# Altium footprint library MasterLib.PcbLib: 80 footprints (part 5 of 5)
Each footprint in its own frame and in the unit in brackets; x right, y up, seen from the top. Pads: shape width x height; smd on the part's side, far side on the other; paste and mask are expansions set on the pad; w line width, h text height; cw(c..) or ccw(c..) is an arc to the next point about the centre after c.
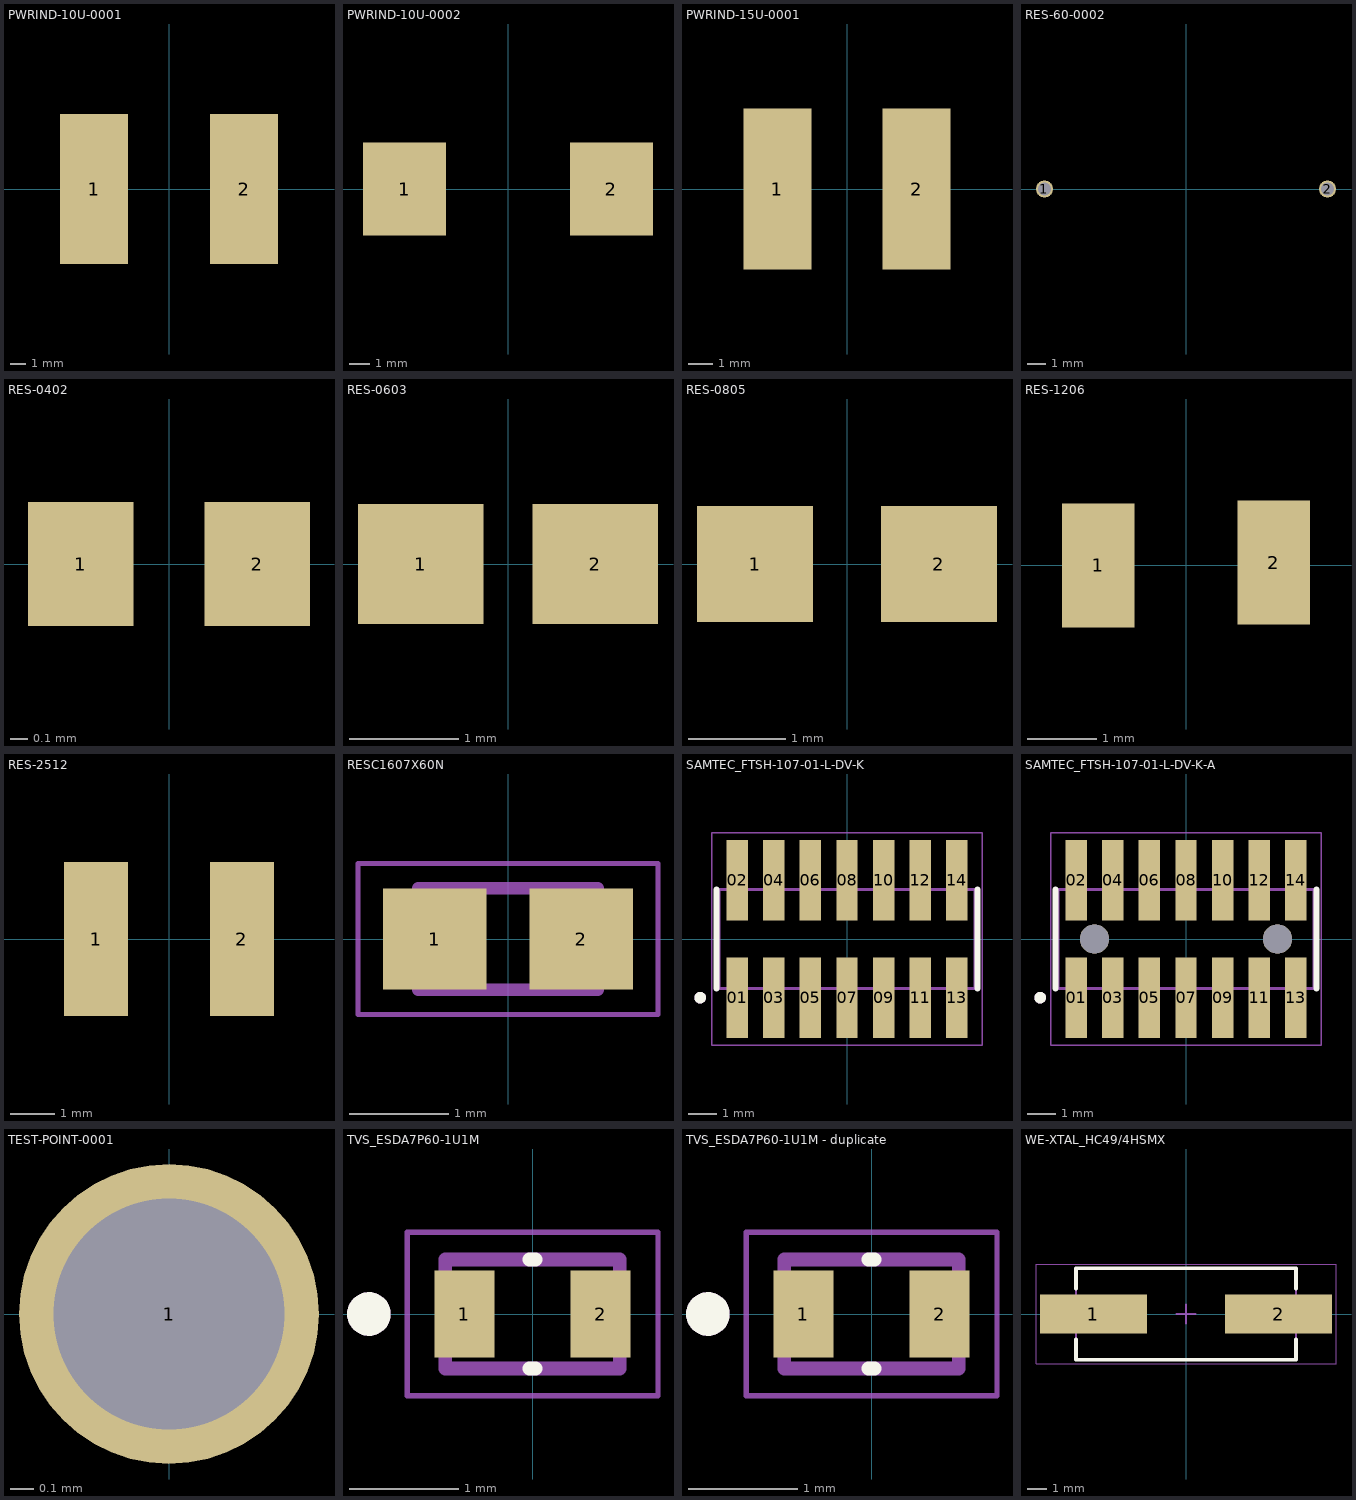
[diagram p4: the footprints below, top view; thin cyan lines are the x and y axes]

## PWRIND-10U-0001 [mm]
pads (2):
  rect 4.5x10 smd: 1(-5,0) 2(5,0)
3D body "HC1.step": height 0, standoff -10.01, extent -6.502,-6.502 6.502,6.502

## PWRIND-10U-0002 [mm]
pads (2):
  rect 4x4.5 smd: 1(-5,0) 2(5,0)
3D body "IND_BOURNS_SRP1270.step": height 7.06, standoff 0, extent -6.845,-6.452 6.845,6.452

## PWRIND-15U-0001 [mm]
pads (2):
  rect 2.8x6.6 smd: 1(-2.85,0) 2(2.85,0)
3D body "User Library-Bourns_SRN8040TA_series_H3_7mm.STEP": height 3.7, standoff 0.01, extent -4,-4 4,4

## RES-60-0002 [mm]
pads (2):
  round 0.9 hole 0.7: 1(-7.5,0) 2(7.5,0)

## RES-0402 [mm]
pads (2):
  rect 0.6x0.7 smd: 1(-0.5,0) 2(0.5,0)
3D body "1879131-6.stp": height 0.3, standoff 0, extent -0.5,-0.25 0.5,0.25

## RES-0603 [mm]
pads (2):
  rect 1.15x1.1 smd: 1(-0.8,0) 2(0.8,0)
3D body "2176051-4.STEP": height 0.43, standoff -0.03, extent -0.8,-0.4 0.8,0.4

## RES-0805 [mm]
pads (2):
  rect 1.2x1.2 smd: 1(-0.95,0) 2(0.95,0)
3D body "RC0805N_PAN.step": height 0.71, standoff 0, extent -1,-0.6 1,0.6

## RES-1206 [mm]
pads (2):
  rect 1.05x1.8 smd: 1(-1.275,0) 2(1.275,0.043)
3D body "D25-CRCW1206-IF e3.stp": height 0.55, standoff 0, extent -1.6,-0.775 1.6,0.825

## RES-2512 [mm]
pads (2):
  rect 1.45x3.5 smd: 1(-1.65,0) 2(1.65,0)

## RESC1607X60N [mm]
pads (2):
  rect 1.04x1.02 smd: 1(-0.735,0) 2(0.735,0)
Mechanical 13:
  lines w0.127: -0.9,-0.51 -0.9,0.51 0.9,0.51 0.9,-0.51 -0.9,-0.51
Mechanical 15:
  lines w0.05: -1.508,-0.761 -1.508,0.761 1.508,0.761 1.508,-0.761 -1.508,-0.761
3D body "step_temp.STEP": height 0.55, standoff 0, extent -0.8,-0.4 0.8,0.4

## SAMTEC_FTSH-107-01-L-DV-K [mm]
pads (14):
  rect 0.74x2.79 smd: 01(-3.81,-2.035) 02(-3.81,2.035) 03(-2.54,-2.035) 04(-2.54,2.035) 05(-1.27,-2.035) 06(-1.27,2.035) 07(0,-2.035) 08(0,2.035) 09(1.27,-2.035) 10(1.27,2.035) 11(2.54,-2.035) 12(2.54,2.035) 13(3.81,-2.035) 14(3.81,2.035)
Top Overlay:
  circle w0.2: c-5.095,-2.035 r0.1
  lines w0.2: -4.53,-1.715 -4.53,1.715 ; 4.53,-1.715 4.53,1.715
Mechanical 13:
  circle w0.2: c-5.095,-2.035 r0.1
  lines w0.1: -4.445,-1.715 -4.445,1.715 ; -4.445,-1.715 4.445,-1.715 ; -4.445,-1.715 -4.445,1.715 ; -4.445,1.715 4.445,1.715 ; -4.445,1.715 4.445,1.715 ; 4.445,-1.715 4.445,1.715 ; 4.445,-1.715 4.445,1.715
Mechanical 15:
  lines w0.05: -4.695,-3.68 4.695,-3.68 4.695,3.68 -4.695,3.68 -4.695,-3.68
3D body "FTSH-107-01-L-DV-K.stp": height 5.96, standoff -0.16, extent -4.445,-2.821 4.445,3.021

## SAMTEC_FTSH-107-01-L-DV-K-A [mm]
height 6.23
pads (16):
  rect 0.74x2.79 smd: 01(-3.81,-2.035) 02(-3.81,2.035) 03(-2.54,-2.035) 04(-2.54,2.035) 05(-1.27,-2.035) 06(-1.27,2.035) 07(0,-2.035) 08(0,2.035) 09(1.27,-2.035) 10(1.27,2.035) 11(2.54,-2.035) 12(2.54,2.035) 13(3.81,-2.035) 14(3.81,2.035)
  round 1.02 hole 1.02 unplated mask+0.051: ""(-3.175,0) ""(3.175,0)
Top Overlay:
  circle w0.2: c-5.06,-2.035 r0.1
  lines w0.2: -4.53,-1.715 -4.53,1.715 ; 4.53,-1.715 4.53,1.715
Top Paste:
  region: -0.9,-3.427 -1.64,-3.427 -1.64,-0.637 -0.9,-0.637
  region: -0.9,0.637 -1.64,0.637 -1.64,3.427 -0.9,3.427
  region: 0.37,-3.427 -0.37,-3.427 -0.37,-0.637 0.37,-0.637
  region: 0.37,0.637 -0.37,0.637 -0.37,3.427 0.37,3.427
  region: 1.64,-3.427 0.9,-3.427 0.9,-0.637 1.64,-0.637
  region: 1.64,0.637 0.9,0.637 0.9,3.427 1.64,3.427
  region: 2.91,-3.427 2.17,-3.427 2.17,-0.637 2.91,-0.637
  region: 2.91,0.637 2.17,0.637 2.17,3.427 2.91,3.427
  region: 4.18,-3.427 3.44,-3.427 3.44,-0.637 4.18,-0.637
  region: 4.18,0.637 3.44,0.637 3.44,3.427 4.18,3.427
Mechanical 13:
  circle w0.2: c-5.06,-2.035 r0.1
  lines w0.1: -4.445,-1.715 -4.445,1.715 4.445,1.715 4.445,-1.715 -4.445,-1.715
Mechanical 15:
  lines w0.05: -4.695,-3.68 -4.695,3.68 4.695,3.68 4.695,-3.68 -4.695,-3.68
3D body "FTSH-107-01-L-DV-K-A.stp": height 5.71, standoff -1.27, extent -4.42,-2.946 4.47,2.896

## TEST-POINT-0001 [mm] "2024 miniature test point"
pads (1):
  round 1.3 hole 1: 1(0,0)
3D body "5003--3DModel-STEP-630548.STEP": height 4.57, standoff -3.05, extent -1.27,-1.27 1.27,1.27

## TVS_ESDA7P60-1U1M [mm]
height 0.6
pads (2):
  rect 0.55x0.8 smd: 1(-0.625,0) 2(0.625,0)
Top Overlay:
  circle w0.2: c-1.5,0 r0.1
  lines w0.127: -0.03,-0.5 0.03,-0.5 ; -0.03,0.5 0.03,0.5
Mechanical 13:
  circle w0.2: c-1.5,0 r0.1
  lines w0.127: -0.8,-0.5 -0.8,0.5 0.8,0.5 0.8,-0.5 -0.8,-0.5
Mechanical 15:
  lines w0.05: -1.15,-0.75 1.15,-0.75 1.15,0.75 -1.15,0.75 -1.15,-0.75
3D body "ESDA7P60-1U1M.STEP": height 0.6, standoff 0, extent -0.8,-0.525 0.8,0.475

## TVS_ESDA7P60-1U1M - duplicate [mm]
height 0.6
pads (2):
  rect 0.55x0.8 smd: 1(-0.625,0) 2(0.625,0)
Top Overlay:
  circle w0.2: c-1.5,0 r0.1
  lines w0.127: -0.03,-0.5 0.03,-0.5 ; -0.03,0.5 0.03,0.5
Mechanical 13:
  circle w0.2: c-1.5,0 r0.1
  lines w0.127: -0.8,-0.5 0.8,-0.5 0.8,0.5 -0.8,0.5 -0.8,-0.5
Mechanical 15:
  lines w0.05: -1.15,-0.75 -1.15,0.75 1.15,0.75 1.15,-0.75 -1.15,-0.75
3D body "ESDA7P60-1U1M.STEP": height 0.5, standoff -0.5, extent -0.8,-0.254 0.8,0.346

## WE-XTAL_HC49/4HSMX [mm] "Quartz Crystal, size HC49/4HSMX, body 11.4x4.9mm"
height 4.3
pads (2):
  rect 5.5x2 smd: 1(-4.75,0) 2(4.75,0)
Top Overlay:
  lines w0.2: -5.65,-1.3 -5.65,-2.35 5.65,-2.35 5.65,-1.3 ; -5.65,1.3 -5.65,2.35 5.65,2.35 5.65,1.3
Top Courtyard:
  lines w0.05: -7.7,-2.55 7.7,-2.55 7.7,2.55 -7.7,2.55 -7.7,-2.55
Top 3D Body:
  lines w0.1: -5.65,-2.35 5.65,-2.35 5.65,2.35 -5.65,2.35 -5.65,-2.35
Top Assembly:
  lines w0.1: -5.65,-2.35 -5.65,2.35 5.65,2.35 5.65,-2.35 -5.65,-2.35
Top Designator:
  text ".Designator" at -3.647,-0.357 h1
Top Component Center:
  lines w0.1: -0.5,0 0.5,0 ; 0,-0.5 0,0.5
3D body "FrqXTAL_HC49-4HSMX.stp": height 4.4, standoff 0.1, extent -6.7,-2.45 6.7,2.45